# Altium footprint library WH1602B.PcbLib: 1 footprints
Each footprint in its own frame and in the unit in brackets; x right, y up, seen from the top. Pads: shape width x height; smd on the part's side, far side on the other; paste and mask are expansions set on the pad; w line width, h text height; cw(c..) or ccw(c..) is an arc to the next point about the centre after c.
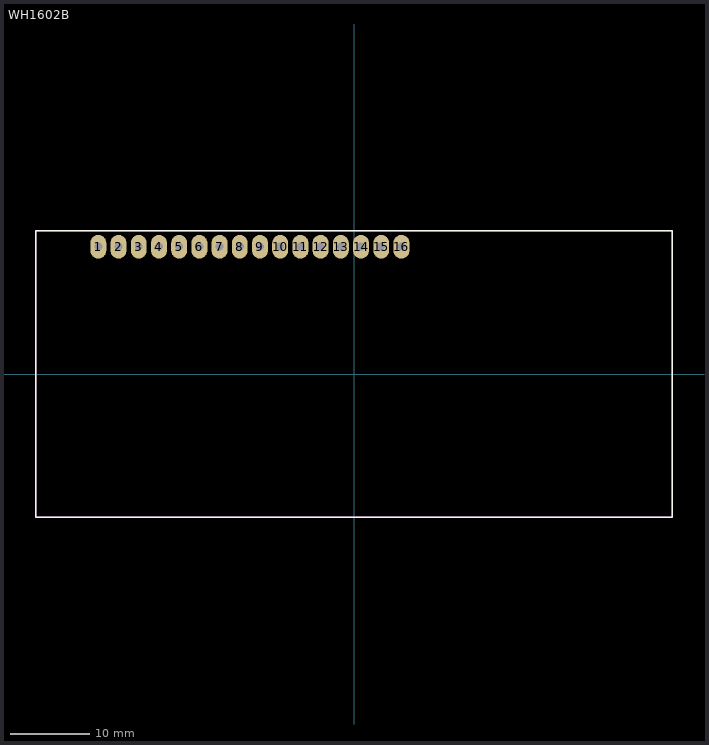
[diagram p0: the footprint, top view; thin cyan lines are the x and y axes]

## WH1602B [mm]
pads (16):
  oval 2x3 hole 1: 1(-32.14,16) 2(-29.6,16) 3(-27.06,16) 4(-24.52,16) 5(-21.98,16) 6(-19.44,16) 7(-16.9,16) 8(-14.36,16) 9(-11.82,16) 10(-9.28,16) 11(-6.74,16) 12(-4.2,16) 13(-1.66,16) 14(0.88,16) 15(3.42,16) 16(5.96,16)
Top Overlay:
  lines w0.2: -40,-18 -40,18 40,18 40,-18 -40,-18
Top Assembly:
  lines w0.2: -40,-18 -40,18 40,18 40,-18 -40,-18
  text "'.Designator'" at -0.575,-0.375 h0.7
3D body "User Library-Winstar WH1602B-1.step": height 13.2, standoff 0.2, extent -40,-18 40,18